# Altium schematic symbol library TLV76012DBZTsch.SchLib: 1 symbol
Pins are listed as number, name and electrical type; pins without a type are passive.

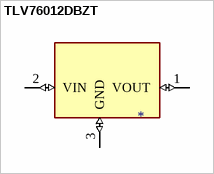
[diagram p0: symbol TLV76012DBZT]

## TLV76012DBZT
designator ?
Linear Voltage Regulator IC 1 Output 100mA SOT-23-3; MP: TLV76012DBZT; MF: Texas Instruments; Availability: Unavailable; SnapEDA_Link: https://www.snapeda.com/parts/TLV76012DBZT/Texas%20Instruments/view-part/2782786/?ref=snap; Price: None; Package: SOT-23-3 Texas Instruments; Value: *
footprint SOT23
pins: 1 VOUT (io), 2 VIN (io), 3 GND (io)